# Altium schematic symbol library belton-engineering.SCHLIB: 2 symbols
Pins are listed as number, name and electrical type; pins without a type are passive.

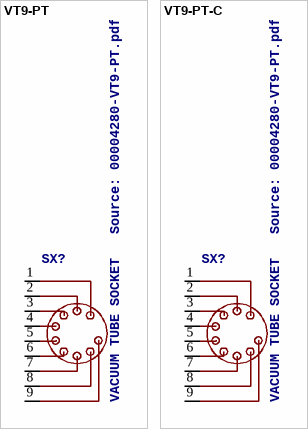
[diagram p0: symbols VT9-PT to VT9-PT-C]

## VT9-PT
designator SX?, comment VACUUM TUBE SOCKET   Source: 00004280-VT9-PT.pdf
footprint VT9-PT
pins: 1, 2, 3, 4, 5, 6, 7, 8, 9

## VT9-PT-C
designator SX?, comment VACUUM TUBE SOCKET   Source: 00004280-VT9-PT.pdf
footprint VT9-PT-C
pins: 1, 2, 3, 4, 5, 6, 7, 8, 9